# Altium schematic symbol library STD11N60DM2.Schlib: 1 symbol
Pins are listed as number, name and electrical type; pins without a type are passive.

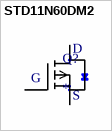
[diagram p0: symbol STD11N60DM2]

## STD11N60DM2
designator Q?
MFG: STMicroelectronics; Supplier: Digikey; Supplier PN: 497-16925-1-ND
footprint DPAK (TO-252); pin to pad D>2 G>1 S>3
pins: D, G, S